# Altium footprint library IBB.PcbLib: 53 footprints (part 2 of 4)
Each footprint in its own frame and in the unit in brackets; x right, y up, seen from the top. Pads: shape width x height; smd on the part's side, far side on the other; paste and mask are expansions set on the pad; w line width, h text height; cw(c..) or ccw(c..) is an arc to the next point about the centre after c.
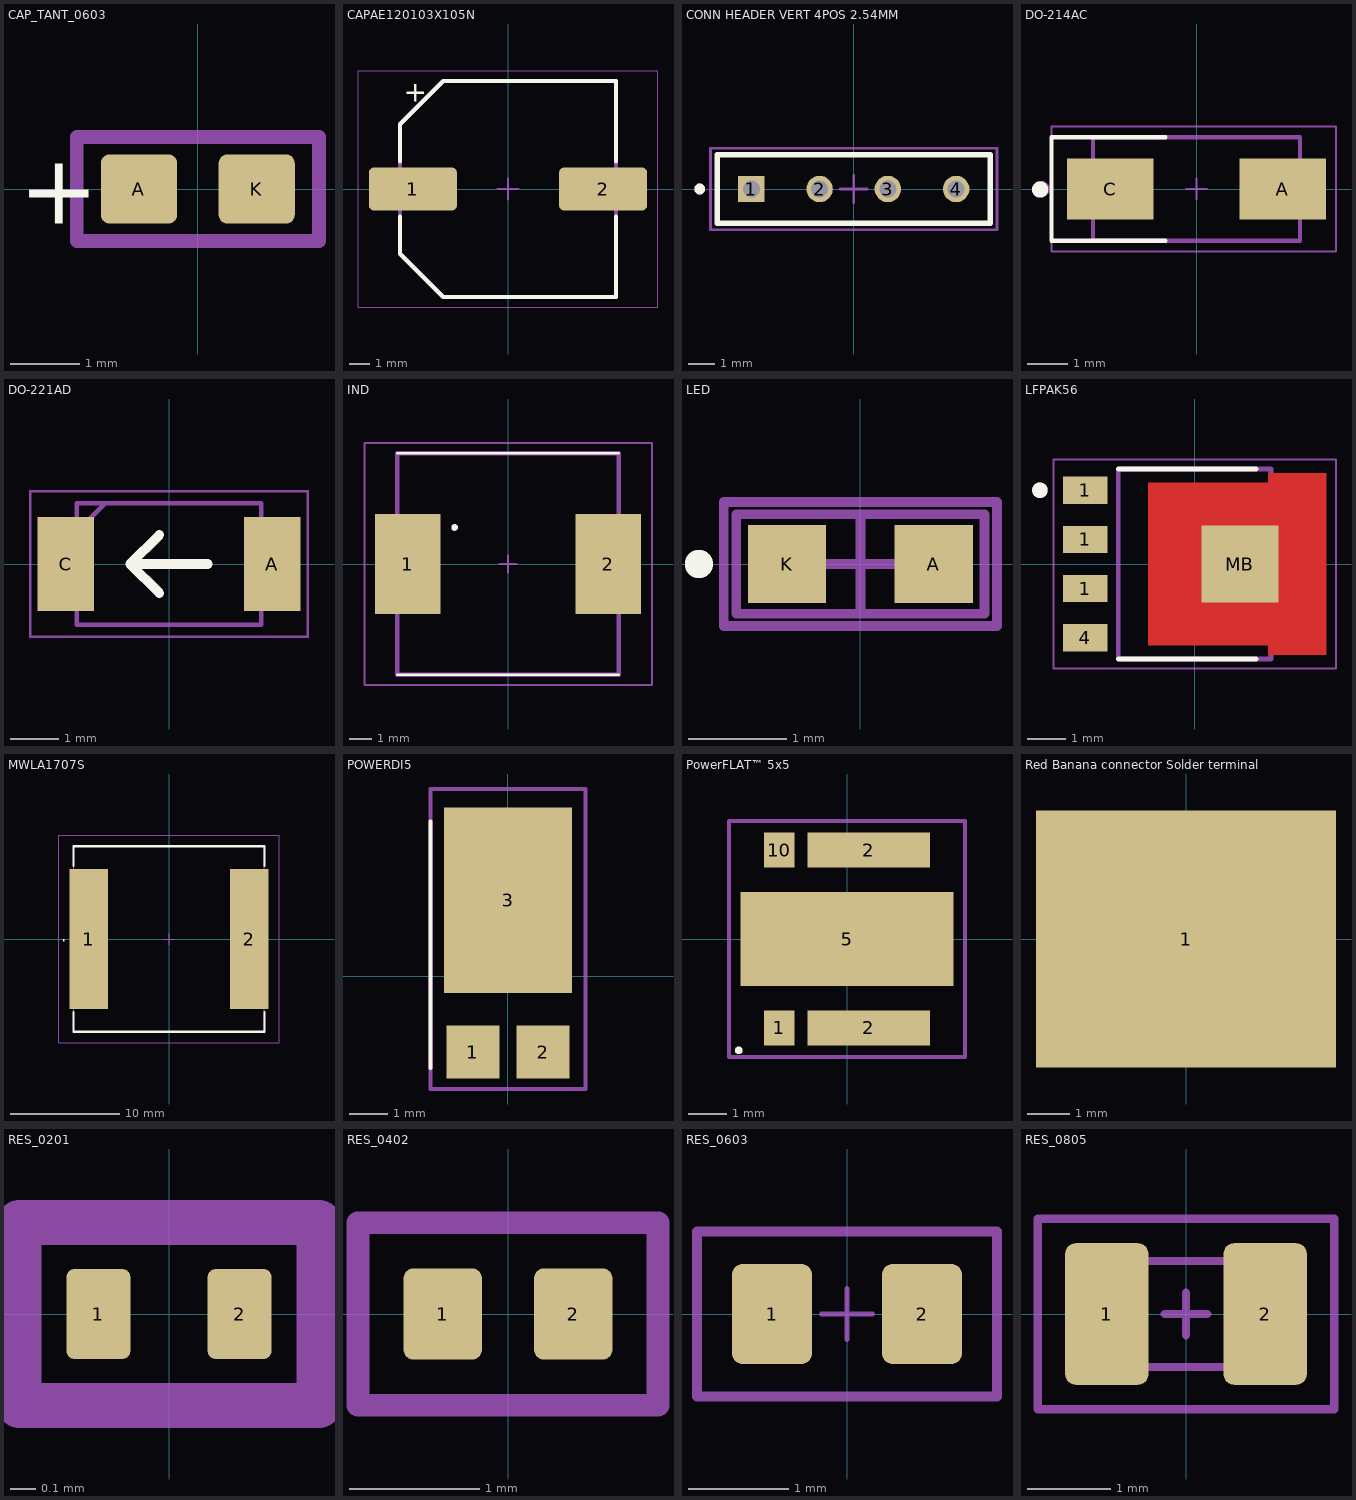
[diagram p1: the footprints below, top view; thin cyan lines are the x and y axes]

## CAP_TANT_0603 [mm]
pads (2):
  rrect25% 1.1x1 smd: A(-0.85,0) K(0.85,0)
Top Overlay:
  text "+" at -2.583,-0.5 h1
Mechanical 13:
  lines w0.2: -1.75,-0.75 1.75,-0.75 1.75,0.75 -1.75,0.75 -1.75,-0.75
  text ".Designator" at -4.998,-0.333 h1
  text "+" at -1.333,1 h1
3D body "CAP_TANT_0603.step": height 0.91, standoff 0.01, extent -0.9,-0.525 0.9,0.525

## CAPAE120103X105N [mm] "Aluminum Electrolytic Capacitor, Body 10.30x10.30x10.50mm, IPC Medium Density"
height 10.5
pads (2):
  rrect25% 4.3x2.1 smd: 1(-4.625,0) 2(4.625,0)
Top Overlay:
  lines w0.2: -5.25,-1.35 -5.25,-3.15 -3.15,-5.25 5.25,-5.25 5.25,-1.35 ; -5.25,1.35 -5.25,3.15 -3.15,5.25 5.25,5.25 5.25,1.35
  text "+" at -5.083,4.25 h1
Top Component Center:
  lines w0.1: -0.5,0 0.5,0 ; 0,-0.5 0,0.5
Top Designator:
  text "'.Designator'" at -5.665,-0.417 h1
Mechanical 13:
  lines w0.2: -5.25,-3.15 -5.25,3.15 -3.15,5.25 5.25,5.25 5.25,-5.25 -3.15,-5.25 -5.25,-3.15
  text "+" at -5.083,4.25 h1
Top Component Outline:
  lines w0.05: -7.3,-5.75 7.3,-5.75 7.3,5.75 -7.3,5.75 -7.3,-5.75
3D body "CAPAE120103X105N.step": height 10.5, standoff 0, extent -6,-5.25 6,5.25

## CONN HEADER VERT 4POS 2.54MM [mm]
pads (4):
  rect 0.985x0.985 hole 0.635: 1(-3.81,0)
  round 0.985 hole 0.635: 2(-1.27,0) 3(1.27,0) 4(3.81,0)
Top Overlay:
  circle w0.2: c-5.73,0 r0.1
  lines w0.2: -5.08,-1.27 -5.08,1.27 5.08,1.27 5.08,-1.27 -5.08,-1.27
Top Component Center:
  lines w0.1: -0.508,0 0.508,0 ; 0,-0.508 0,0.508
Top Designator:
  text ".Designator" at -3.434,-0.345 h1.52
Top Assembly:
  lines w0.1: -5.08,-1.27 5.08,-1.27 ; -5.08,-1.27 -5.08,1.27 ; -5.08,-1.27 -5.08,1.27 ; -5.08,1.27 5.08,1.27 ; -5.08,1.27 5.08,1.27 ; 5.08,-1.27 5.08,1.27 ; 5.08,-1.27 5.08,1.27
Mechanical 13:
  circle w0.2: c-5.73,0 r0.1
Top Component Outline:
  lines w0.1: -5.33,-1.52 -5.33,1.52 5.33,1.52 5.33,-1.52 -5.33,-1.52
3D body "TS-104-T-AA.stp": height 8.28, standoff -3.84, extent -5.182,-1.27 5.182,1.27

## DO-214AC [mm]
pads (2):
  rect 2.12x1.5 smd paste+0 mask+0.1: A(2.115,0) C(-2.115,0)
Top Overlay:
  circle w0.2: c-3.841,-0.013 r0.1
  lines w0.1: -0.762,-1.27 -3.556,-1.27 -3.556,1.27 -0.762,1.27
Top Component Center:
  lines w0.05: -0.254,0 0.254,0 ; 0,-0.254 0,0.254
Top Designator:
  text ".Designator" at -3.434,-0.345 h1.52
Top Assembly:
  circle w0.2: c-3.81,0 r0.1
  lines w0.1: -2.54,-1.27 -2.54,1.27 2.54,1.27 2.54,-1.27 -2.54,-1.27
Top Component Outline:
  lines w0.05: -3.556,-1.53 3.425,-1.53 3.425,1.53 -3.556,1.53 -3.556,-1.53
3D body "step_temp.STEP": height 2.5, standoff 0, extent -2.57,-1.28 2.57,1.28

## DO-221AD [mm]
pads (2):
  rect 1.17x1.93 smd: A(2.125,0) C(-2.125,0)
Top Overlay:
  lines w0.2: -0.2,-0.6 -0.8,0 ; -0.2,0.6 -0.8,0 ; 0.8,0 -0.8,0 ; -0.8,0 -0.8,0
Top Designator:
  text ".Designator" at -3.434,-0.345 h1.52
Top Assembly:
  lines w0.1: -1.9,0.665 -1.315,1.25 ; -1.9,-1.25 -1.9,1.25 1.9,1.25 1.9,-1.25 -1.9,-1.25
Top Component Outline:
  lines w0.05: -2.86,-1.5 -2.86,1.5 2.86,1.5 2.86,-1.5 -2.86,-1.5
3D body "step_temp.STEP": height 1.1, standoff 0, extent -2.35,-1.25 2.35,1.25

## IND [mm] "SPM10065VT-220M-D"
pads (2):
  rect 2.95x4.5 smd: 1(-4.525,0) 2(4.525,0)
Top Overlay:
  circle w0.2: c-2.413,1.651 r0.05
  lines w0.1: -5,-5 5,-5 ; -5,5 5,5
Top Component Center:
  lines w0.1: -0.381,0 0.381,0 ; 0,-0.381 0,0.381
Top Designator:
  text "'.Designator'" at -5.84,-0.925 h1
Mechanical 13:
  lines w0.2: -5,-5 5,-5 5,5 -5,5 -5,-5
Top Component Outline:
  lines w0.1: -6.477,-5.461 6.5,-5.461 6.5,5.461 -6.477,5.461 -6.477,-5.461
3D body "SPM10065VT-220M-D.stp": height 6.36, standoff 0.01, extent -5.25,-5 5.25,5

## LED [mm]
pads (2):
  rect 0.8x0.8 smd paste+0 mask+0: A(0.75,0) K(-0.75,0)
Top Overlay:
  circle w0.25: c-1.651,0 r0.02
Top Component Center:
  lines w0.1: -0.5,0 0.5,0 ; 0,-0.5 0,0.5
Top Assembly:
  lines w0.1: -1.27,-0.508 1.27,-0.508 1.27,0.508 -1.27,0.508 -1.27,-0.508
  text ".Designator" at -1.578,-0.158 h0.7
Top Component Outline:
  lines w0.1: -1.397,-0.635 1.397,-0.635 1.397,0.635 -1.397,0.635 -1.397,-0.635
3D body "Diode_Lite-On_LTST-C190KRKT_eec.STEP": height 0.25, standoff 0, extent -1.25,-0.55 1.25,0.55

## LFPAK56 [mm]
pads (5):
  rect 1.15x0.7 smd paste-0.05 mask+0.1: 1(-2.825,-0.635) 1(-2.825,0.635) 1(-2.825,1.905) 4(-2.825,-1.905)
  rect 2x2 smd paste-2 mask+0: MB(1.17,0)
Top Layer:
  region: 3.4,-2.35 1.9,-2.35 1.9,-2.1 -1.2,-2.1 -1.2,2.1 1.9,2.1 1.9,2.35 3.4,2.35
Top Overlay:
  circle w0.2: c-4,1.905 r0.1
  lines w0.127: -1.975,-2.45 1.587,-2.45 ; -1.975,2.45 1.587,2.45
Top Paste:
  region: 3.35,0.335 2.45,0.335 2.45,0.935 3.35,0.935
  region: 3.35,1.605 2.45,1.605 2.45,2.205 3.35,2.205
  region: 3.35,-0.935 2.45,-0.935 2.45,-0.335 3.35,-0.335
  region: 3.35,-2.205 2.45,-2.205 2.45,-1.605 3.35,-1.605
  region: 0.5,-0.45 -0.1,-0.45 -0.1,0.45 0.5,0.45
  region: 0.5,0.7 -0.1,0.7 -0.1,1.6 0.5,1.6
  region: 0.5,-1.6 -0.1,-1.6 -0.1,-0.7 0.5,-0.7
  region: 1.35,0.7 0.75,0.7 0.75,1.6 1.35,1.6
  region: 1.35,-0.45 0.75,-0.45 0.75,0.45 1.35,0.45
  region: 1.35,-1.6 0.75,-1.6 0.75,-0.7 1.35,-0.7
  region: -0.35,0.7 -0.95,0.7 -0.95,1.6 -0.35,1.6
  region: -0.35,-0.45 -0.95,-0.45 -0.95,0.45 -0.35,0.45
  region: -0.35,-1.6 -0.95,-1.6 -0.95,-0.7 -0.35,-0.7
Top Solder:
  region: 3.475,-2.425 1.825,-2.425 1.825,-2.175 -1.275,-2.175 -1.275,2.175 1.825,2.175 1.825,2.425 3.475,2.425
Top Component Center:
  lines w0.05: -0.254,0 0.254,0 ; 0,-0.254 0,0.254
Top Designator:
  text ".Designator" at -3.434,-0.345 h1.52
Mechanical 13:
  circle w0.2: c-4,1.905 r0.1
  lines w0.127: -1.975,-2.45 1.975,-2.45 1.975,2.45 -1.975,2.45 -1.975,-2.45
Top Component Outline:
  lines w0.05: -3.65,-2.7 3.65,-2.7 3.65,2.7 -3.65,2.7 -3.65,-2.7
3D body "step_temp.STEP": height 1.2, standoff 0, extent -3,-2.45 3,2.45

## MWLA1707S [mm]
pads (2):
  rect 3.5x12.8 smd: 1(-7.35,0) 2(7.35,0)
Top Overlay:
  lines w0.1: -9.7,-0.1 cw(c-9.65,-0.1) -9.6,-0.1 cw(c-9.65,-0.1) -9.7,-0.1
  lines w0.2: -8.75,-6.7 -8.75,-8.5 8.75,-8.5 8.75,-6.7 ; -8.75,6.7 -8.75,8.5 8.75,8.5 8.75,6.7
Top Component Center:
  lines w0.1: -0.508,0 0.508,0 ; 0,-0.508 0,0.508
Top Designator:
  text ".Designator" at -3.434,-0.345 h1.52
Top Assembly:
  lines w0.1: -8.75,-8.5 -8.75,8.5 8.75,8.5 8.75,-8.5 -8.75,-8.5
Top Component Outline:
  lines w0.1: -10.1,-9.5 10.1,-9.5 10.1,9.5 -10.1,9.5 -10.1,-9.5
3D body "MWLA1707S-101MT.stp": height 7.1, standoff 0, extent -8.75,-8.5 8.75,8.5

## POWERDI5 [mm]
pads (3):
  rect 1.39x1.4 smd mask+0.1: 1(-0.92,-1.991) 2(0.92,-1.991)
  rect 3.36x4.86 smd mask+0.1: 3(0,1.991)
Top Overlay:
  lines w0.1: -2.032,-2.413 -2.032,4.064
Top 3D Body:
  lines w0.1: 2.032,-2.413 2.032,4.064
Top Component Center:
  lines w0.05: -0.381,1.991 0.381,1.991 ; 0,1.61 0,2.372
Top Designator:
  text ".Designator" at -2.252,1.765 h1
Top Assembly:
  lines w0.1: -2.032,-2.962 -2.032,4.912 2.032,4.912 2.032,-2.962 -2.032,-2.962
Top Component Outline:
  lines w0.1: -2.032,-2.962 2.032,-2.962 2.032,4.912 -2.032,4.912 -2.032,-2.962
3D body "SBRT10U50SP5-13.STEP": height 1.15, standoff 0, extent -1.983,-2.413 1.983,4.091

## PowerFLAT™ 5x5 [mm]
pads (5):
  rect 0.78x0.91 smd: 1(-1.745,-2.295) 10(-1.745,2.295)
  rect 3.15x0.91 smd: 2(0.56,-2.295) 2(0.56,2.295)
  rect 5.5x2.43 smd: 5(0,0)
Top Overlay:
  lines w0.1: -2.794,-2.921 cw(c-2.794,-2.871) -2.794,-2.821 cw(c-2.794,-2.871) -2.794,-2.921
Top Component Center:
  lines w0.05: -0.254,0 0.254,0 ; 0,-0.254 0,0.254
Top Designator:
  text ".Designator" at -2.252,-0.425 h1
  text ".Designator" at -2.289,-0.23 h1.02
Top Component Outline:
  lines w0.1: -3.048,-3.048 -3.048,3.048 3.048,3.048 3.048,-3.048 -3.048,-3.048
3D body "STL11N65M5.stp": height 1, standoff 0, extent -2.5,-2.5 2.5,2.5

## Red Banana connector Solder terminal [mm]
pads (1):
  rect 7x6 smd: 1(0,0)

## RES_0201 [mm]
pads (2):
  rrect25% 0.25x0.35 smd mask+0.05: 1(-0.275,0) 2(0.275,0)
Mechanical 13:
  lines w0.175: -0.584,-0.356 0.584,-0.356 0.584,0.356 -0.584,0.356 -0.584,-0.356
  text "'.Designator'" at -5.665,-0.417 h1
3D body "R0201.step": height 0.15, standoff 0, extent -0.3,-0.15 0.3,0.15

## RES_0402 [mm]
pads (2):
  rrect25% 0.6x0.7 smd: 1(-0.5,0) 2(0.5,0)
Mechanical 13:
  lines w0.175: -1.15,-0.7 -1.15,0.7 1.15,0.7 1.15,-0.7 -1.15,-0.7
  text "'.Designator'" at -5.665,-0.417 h1
3D body "R0402.step": height 0.3, standoff 0, extent -0.5,-0.25 0.5,0.25

## RES_0603 [mm]
pads (2):
  rrect25% 0.8x1 smd mask+0.1: 1(-0.75,0) 2(0.75,0)
Top Component Center:
  lines w0.05: -0.254,0 0.254,0 ; 0,-0.254 0,0.254
Top Designator:
  text "'.Designator'" at -2.417,-0.226 h1
Top Component Outline:
  lines w0.1: -1.5,-0.825 -1.5,0.825 1.5,0.825 1.5,-0.825 -1.5,-0.825
3D body "R0603.step": height 0.52, standoff 0.01, extent -0.8,-0.43 0.8,0.43

## RES_0805 [mm]
pads (2):
  rrect25% 1x1.7 smd: 1(-0.95,0) 2(0.95,0)
Top Component Center:
  lines w0.1: -0.254,0 0.254,0 ; 0,-0.254 0,0.254
Top Designator:
  text "'.Designator'" at -2.417,-0.226 h1
Top Assembly:
  lines w0.1: -1.016,-0.635 -1.016,0.635 1.016,0.635 1.016,-0.635 -1.016,-0.635
Top Component Outline:
  lines w0.1: -1.778,-1.143 1.778,-1.143 1.778,1.143 -1.778,1.143 -1.778,-1.143
3D body "R0805.step": height 0.47, standoff 0.01, extent -1,-0.63 1,0.63